# Altium footprint library Lib_foot_Radar.PcbLib: 80 footprints (part 3 of 5)
Each footprint in its own frame and in the unit in brackets; x right, y up, seen from the top. Pads: shape width x height; smd on the part's side, far side on the other; paste and mask are expansions set on the pad; w line width, h text height; cw(c..) or ccw(c..) is an arc to the next point about the centre after c.
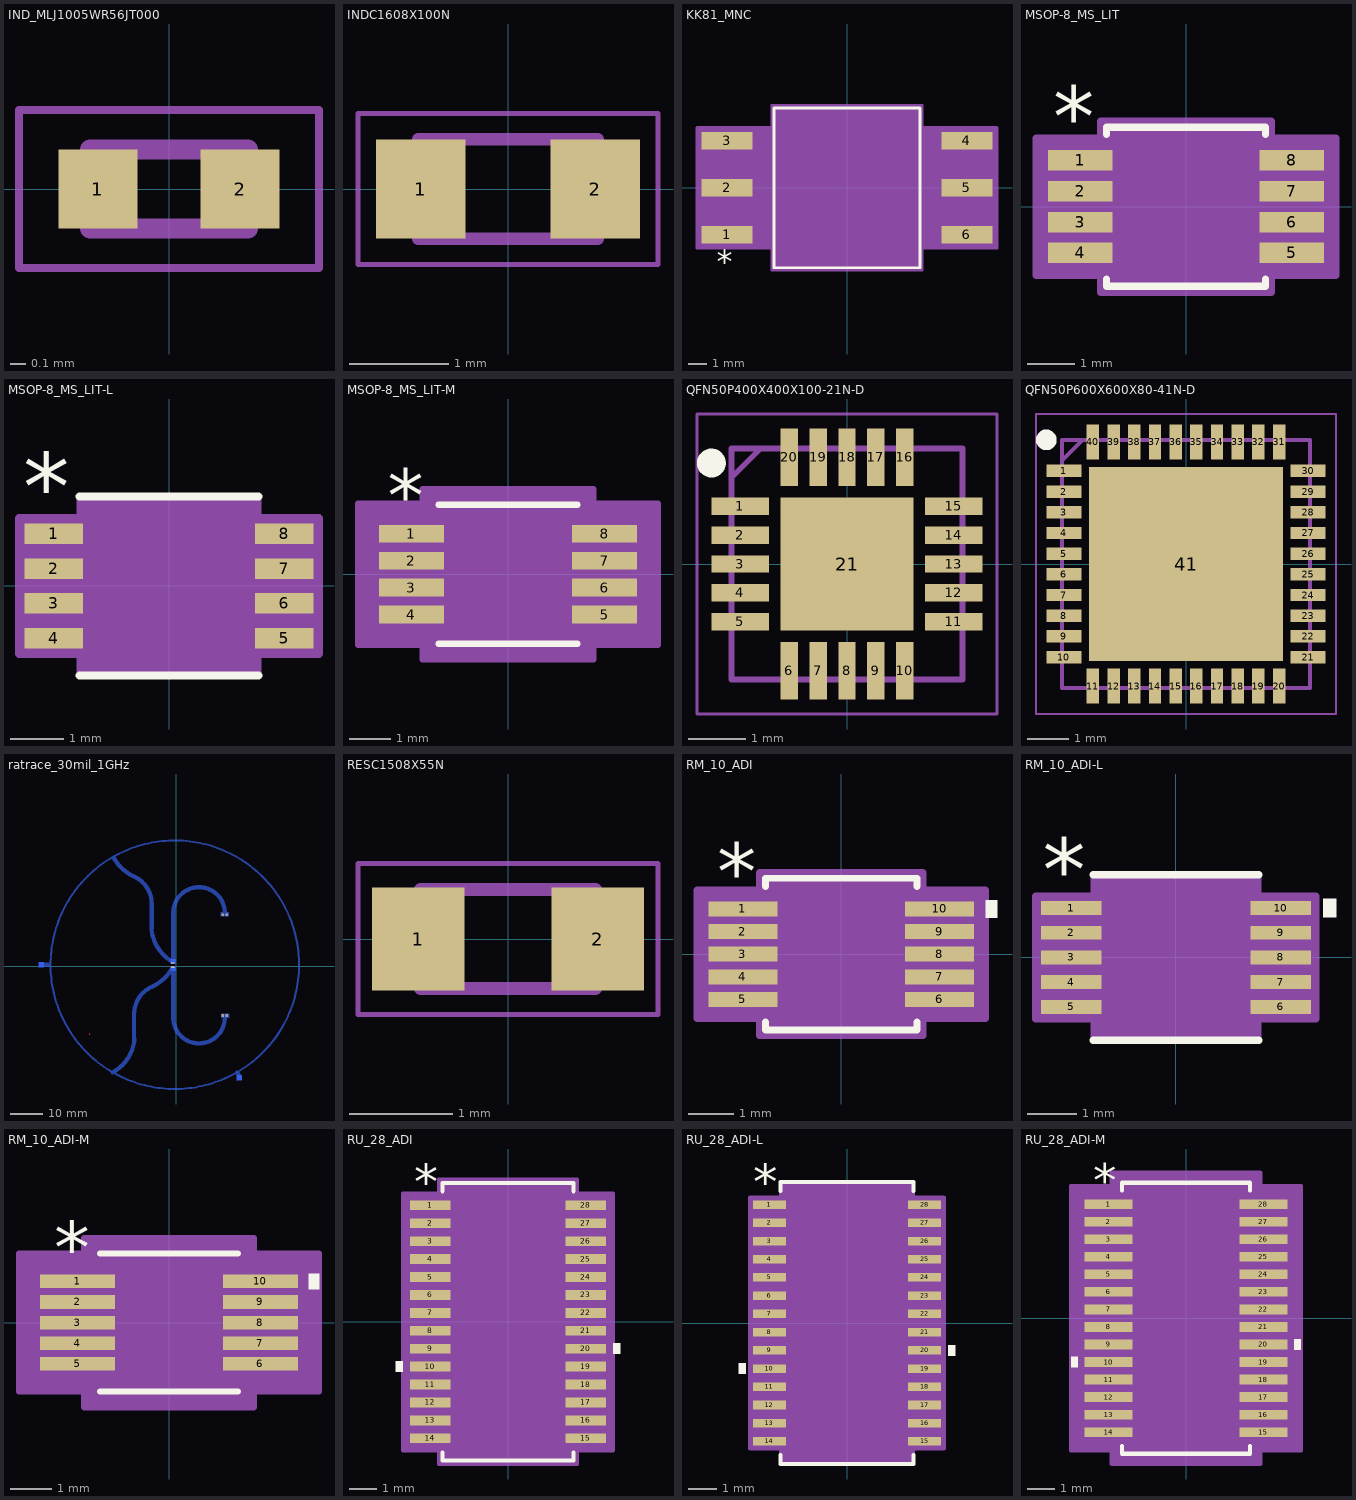
[diagram p2: the footprints below, top view; thin cyan lines are the x and y axes]

## IND_MLJ1005WR56JT000 [mm]
height 0.55
pads (2):
  rect 0.5x0.5 smd: 1(-0.45,0) 2(0.45,0)
Mechanical 13:
  lines w0.127: -0.5,-0.25 -0.5,0.25 0.5,0.25 0.5,-0.25 -0.5,-0.25
Mechanical 15:
  lines w0.05: -0.95,-0.5 -0.95,0.5 0.95,0.5 0.95,-0.5 -0.95,-0.5

## INDC1608X100N [mm] "Inductor LQW0603"
pads (2):
  rect 0.9x1 smd: 1(-0.875,0) 2(0.875,0)
Mechanical 13:
  lines w0.127: -0.9,-0.5 -0.9,0.5 0.9,0.5 0.9,-0.5 -0.9,-0.5
Mechanical 15:
  lines w0.05: -1.508,-0.758 -1.508,0.758 1.508,0.758 1.508,-0.758 -1.508,-0.758
3D body "LQW18ANR47J00D.step": height 1, standoff 0, extent -0.8,-0.381 0.8,0.419

## KK81_MNC [mil]
pads (6):
  rect 108x37 smd paste+0 mask+0: 1(-255,-100) 2(-255,0) 3(-255,100) 4(255,100) 5(255,0) 6(255,-100)
Top Overlay:
  lines w6: -155,-170 155,-170 155,170 -155,170 -155,-170
  text "*" at -277.5,-182 h50
Mechanical 13:
  lines w0: -12,165 ccw(c0,165) 12,165
  lines w1: -295,-117.5 -295,-82.5 -150,-82.5 -150,-117.5 -295,-117.5 ; -295,-17.5 -295,17.5 -150,17.5 -150,-17.5 -295,-17.5 ; -295,82.5 -295,117.5 -150,117.5 -150,82.5 -295,82.5 ; -150,-165 150,-165 150,165 -150,165 -150,-165 ; 150,-117.5 150,-82.5 295,-82.5 295,-117.5 150,-117.5 ; 150,-17.5 150,17.5 295,17.5 295,-17.5 150,-17.5 ; 150,82.5 150,117.5 295,117.5 295,82.5 150,82.5
  text "*" at -147.5,-162 h50
Mechanical 15:
  region: -160,-128.5 -319,-128.5 -319,128.5 -160,128.5 -160,175 160,175 160,128.5 319,128.5 319,-128.5 160,-128.5 160,-175 -160,-175
  lines w6: -319,-128.5 -319,128.5 -160,128.5 -160,175 160,175 160,128.5 319,128.5 319,-128.5 160,-128.5 160,-175 -160,-175 -160,-128.5 -319,-128.5
3D body: height 112, standoff 0, extent -150,-165 150,165

## MSOP-8_MS_LIT [mil]
pads (8):
  rect 53.5x17 smd paste+0 mask+0: 1(-87.75,38.39) 2(-87.75,12.8) 3(-87.75,-12.8) 4(-87.75,-38.39) 5(87.75,-38.39) 6(87.75,-12.8) 7(87.75,12.8) 8(87.75,38.39)
Top Overlay:
  lines w6: -66,-59.99 -66,-66 66,-66 66,-59.99 ; -66,59.99 -66,66 66,66 66,59.99
  text "*" at -110.25,50.39 h50
Mechanical 13:
  lines w0: -12,61 ccw(c0,61) 12,61
  lines w1: -100.5,-45.89 -61,-45.89 -61,-30.89 -100.5,-30.89 -100.5,-45.89 ; -100.5,-20.3 -61,-20.3 -61,-5.3 -100.5,-5.3 -100.5,-20.3 ; -100.5,5.3 -61,5.3 -61,20.3 -100.5,20.3 -100.5,5.3 ; -100.5,30.89 -61,30.89 -61,45.89 -100.5,45.89 -100.5,30.89 ; -61,-61 -61,61 61,61 61,-61 -61,-61 ; 61,-45.89 100.5,-45.89 100.5,-30.89 61,-30.89 61,-45.89 ; 61,-20.3 100.5,-20.3 100.5,-5.3 61,-5.3 61,-20.3 ; 61,5.3 100.5,5.3 100.5,20.3 61,20.3 61,5.3 ; 61,30.89 100.5,30.89 100.5,45.89 61,45.89 61,30.89
  text "*" at -58.5,8 h50
Mechanical 15:
  region: -71,-56.89 -124.5,-56.89 -124.5,56.89 -71,56.89 -71,71 71,71 71,56.89 124.5,56.89 124.5,-56.89 71,-56.89 71,-71 -71,-71
  lines w6: -124.5,-56.89 -71,-56.89 -71,-71 71,-71 71,-56.89 124.5,-56.89 124.5,56.89 71,56.89 71,71 -71,71 -71,56.89 -124.5,56.89 -124.5,-56.89
3D body "MSOP-8_MS_LIT.step": height 43.11, standoff 0, extent -100.51,-60.98 100.51,60.98

## MSOP-8_MS_LIT-L [mil]
pads (8):
  rect 43x15 smd paste+0 mask+0: 1(-85,38.39) 2(-85,12.8) 3(-85,-12.8) 4(-85,-38.39) 5(85,-38.39) 6(85,-12.8) 7(85,12.8) 8(85,38.39)
Top Overlay:
  lines w6: -66,-66 66,-66 ; -66,66 66,66
  text "*" at -107.5,48.39 h50
Mechanical 13:
  lines w0: -12,61 ccw(c0,61) 12,61
  lines w1: -100.5,-45.89 -100.5,-30.89 -61,-30.89 -61,-45.89 -100.5,-45.89 ; -100.5,-20.3 -100.5,-5.3 -61,-5.3 -61,-20.3 -100.5,-20.3 ; -100.5,5.3 -100.5,20.3 -61,20.3 -61,5.3 -100.5,5.3 ; -100.5,30.89 -100.5,45.89 -61,45.89 -61,30.89 -100.5,30.89 ; -61,-61 61,-61 61,61 -61,61 -61,-61 ; 61,-45.89 61,-30.89 100.5,-30.89 100.5,-45.89 61,-45.89 ; 61,-20.3 61,-5.3 100.5,-5.3 100.5,-20.3 61,-20.3 ; 61,5.3 61,20.3 100.5,20.3 100.5,5.3 61,5.3 ; 61,30.89 61,45.89 100.5,45.89 100.5,30.89 61,30.89
  text "*" at -58.5,8 h50
Mechanical 15:
  region: -65,-49.89 -110.5,-49.89 -110.5,49.89 -65,49.89 -65,65 65,65 65,49.89 110.5,49.89 110.5,-49.89 65,-49.89 65,-65 -65,-65
  lines w6: -110.5,-49.89 -110.5,49.89 -65,49.89 -65,65 65,65 65,49.89 110.5,49.89 110.5,-49.89 65,-49.89 65,-65 -65,-65 -65,-49.89 -110.5,-49.89
3D body "MSOP-8_MS_LIT.step": height 43.11, standoff 0, extent -100.51,-60.98 100.51,60.98

## MSOP-8_MS_LIT-M [mil]
pads (8):
  rect 61.5x17 smd paste+0 mask+0: 1(-91.75,38.39) 2(-91.75,12.8) 3(-91.75,-12.8) 4(-91.75,-38.39) 5(91.75,-38.39) 6(91.75,-12.8) 7(91.75,12.8) 8(91.75,38.39)
Top Overlay:
  lines w6: -66,-66 66,-66 ; -66,66 66,66
  text "*" at -114.25,50.39 h50
Mechanical 13:
  lines w0: -12,61 ccw(c0,61) 12,61
  lines w1: -100.5,-45.89 -61,-45.89 -61,-30.89 -100.5,-30.89 -100.5,-45.89 ; -100.5,-20.3 -61,-20.3 -61,-5.3 -100.5,-5.3 -100.5,-20.3 ; -100.5,5.3 -61,5.3 -61,20.3 -100.5,20.3 -100.5,5.3 ; -100.5,30.89 -61,30.89 -61,45.89 -100.5,45.89 -100.5,30.89 ; -61,-61 -61,61 61,61 61,-61 -61,-61 ; 61,-45.89 100.5,-45.89 100.5,-30.89 61,-30.89 61,-45.89 ; 61,-20.3 100.5,-20.3 100.5,-5.3 61,-5.3 61,-20.3 ; 61,5.3 100.5,5.3 100.5,20.3 61,20.3 61,5.3 ; 61,30.89 100.5,30.89 100.5,45.89 61,45.89 61,30.89
  text "*" at -58.5,8 h50
Mechanical 15:
  region: -81,-66.89 -142.5,-66.89 -142.5,66.89 -81,66.89 -81,81 81,81 81,66.89 142.5,66.89 142.5,-66.89 81,-66.89 81,-81 -81,-81
  lines w6: -142.5,-66.89 -81,-66.89 -81,-81 81,-81 81,-66.89 142.5,-66.89 142.5,66.89 81,66.89 81,81 -81,81 -81,66.89 -142.5,66.89 -142.5,-66.89
3D body "MSOP-8_MS_LIT.step": height 43.11, standoff 0, extent -100.51,-60.98 100.51,60.98

## QFN50P400X400X100-21N-D [mm]
pads (21):
  rect 1x0.3 smd: 1(-1.85,1) 2(-1.85,0.5) 3(-1.85,0) 4(-1.85,-0.5) 5(-1.85,-1) 11(1.85,-1) 12(1.85,-0.5) 13(1.85,0) 14(1.85,0.5) 15(1.85,1)
  rect 0.3x1 smd: 6(-1,-1.85) 7(-0.5,-1.85) 8(0,-1.85) 9(0.5,-1.85) 10(1,-1.85) 16(1,1.85) 17(0.5,1.85) 18(0,1.85) 19(-0.5,1.85) 20(-1,1.85)
  rect 2.3x2.3 smd: 21(0,0)
Top Overlay:
  circle w0.25: c-2.35,1.75 r0.125
Mechanical 15:
  lines w0.1: -2,1.5 -1.5,2 ; -2,-2 2,-2 2,2 -2,2 -2,-2
Mechanical 20:
  lines w0.05: -2.6,-2.6 2.6,-2.6 2.6,2.6 -2.6,2.6 -2.6,-2.6
3D body "HMC1056LP4BE.stp": height 1, standoff 0, extent -2.05,-2.05 2.05,2.05

## QFN50P600X600X80-41N-D [mm]
pads (41):
  rect 0.85x0.3 smd: 1(-2.95,2.25) 2(-2.95,1.75) 3(-2.95,1.25) 4(-2.95,0.75) 5(-2.95,0.25) 6(-2.95,-0.25) 7(-2.95,-0.75) 8(-2.95,-1.25) 9(-2.95,-1.75) 10(-2.95,-2.25) 21(2.95,-2.25) 22(2.95,-1.75) 23(2.95,-1.25) 24(2.95,-0.75) 25(2.95,-0.25) 26(2.95,0.25) 27(2.95,0.75) 28(2.95,1.25) 29(2.95,1.75) 30(2.95,2.25)
  rect 0.3x0.85 smd: 11(-2.25,-2.95) 12(-1.75,-2.95) 13(-1.25,-2.95) 14(-0.75,-2.95) 15(-0.25,-2.95) 16(0.25,-2.95) 17(0.75,-2.95) 18(1.25,-2.95) 19(1.75,-2.95) 20(2.25,-2.95) 31(2.25,2.95) 32(1.75,2.95) 33(1.25,2.95) 34(0.75,2.95) 35(0.25,2.95) 36(-0.25,2.95) 37(-0.75,2.95) 38(-1.25,2.95) 39(-1.75,2.95) 40(-2.25,2.95)
  rect 4.7x4.7 smd: 41(0,0)
Top Overlay:
  circle w0.25: c-3.375,3 r0.125
Mechanical 15:
  lines w0.1: -3,2.5 -2.5,3 ; -3,-3 -3,3 3,3 3,-3 -3,-3
Mechanical 20:
  lines w0.05: -3.625,-3.625 -3.625,3.625 3.625,3.625 3.625,-3.625 -3.625,-3.625
3D body "HMC8415LP6GE.stp": height 0.8, standoff 0, extent -3.05,-3.05 3.05,3.05

## ratrace_30mil_1GHz [mil]
pads (6):
  rect 45x18 smd paste+0 mask+0: 1(-45,-10.59) 2(-45,40.59)
  rect 56.3x56.3 smd far side paste+0 mask+4: 1(765,-1359.37) 2(-40,-25) 3(-1650,20) 4(-40,60)
via 565,630 diameter 31.5 hole 31.5
via 615,630 diameter 31.5 hole 31.5
via 565,-600 diameter 31.5 hole 31.5
via 615,-600 diameter 31.5 hole 31.5
Top Layer:
  region: -1057.82,-820.42 -1050.24,-820.42 -1050.24,-828 -1057.82,-828 -1057.82,-835.57 -1065.39,-835.57 -1065.39,-820.42
Bottom Layer:
  rectangle: 535,605 640,660
  region: 645,-575 540,-575 540,-630 645,-630
  lines w24.41: -1536.1,19.64 ccw(c-20.35,19.64) -778.23,-1293.03 ; -1535.75,20 cw(c-20,20) -777.87,1332.68 ; -778.23,1332.32 cw(c-20.35,19.64) 737.52,-1293.03 ; -777.87,-1292.68 ccw(c-20,20) 737.87,-1292.68
  lines w50.79: -1650,20 ccw(c-1649.64,20) -1649.64,19.64 -1550,19.64 ; -778.23,-1293.03 ccw(c-1022.23,-843.99) -512.74,-883.88 ; -766.03,1323.49 ccw(c-280.08,1602.53) -533.65,1102.81 cw(c-668.53,761.84) -301.87,766.17 -301.87,465.15 ; -516.36,-880.26 -516.36,-579.24 cw(c-149.7,-583.57) -284.58,-242.6 ccw(c-538.14,257.12) -52.19,-21.92 ; -305.49,461.53 ccw(c204,501.42) -40,52.38 ; -40,-625 ccw(c274.96,-625) 589.92,-625 ; -40,-615.55 -40,-25 ; -40,60 -40,650.55 cw(c274.96,650.55) 589.92,650.55 ; 737.52,-1293.03 cw(c671.18,-1359.37) 765,-1359.37

## RESC1508X55N [mm]
pads (2):
  rect 0.9x1 smd: 1(-0.875,0) 2(0.875,0)
Mechanical 13:
  lines w0.127: -0.85,-0.48 -0.85,0.48 0.85,0.48 0.85,-0.48 -0.85,-0.48
Mechanical 15:
  lines w0.05: -1.46,-0.735 -1.46,0.735 1.46,0.735 1.46,-0.735 -1.46,-0.735
3D body "RMCF0603JT10R0.step": height 0.55, standoff 0, extent -0.775,-0.4 0.775,0.4

## RM_10_ADI [mil]
pads (10):
  rect 60x13 smd paste+0 mask+0: 1(-85.5,39.37) 2(-85.5,19.68) 3(-85.5,0) 4(-85.5,-19.68) 5(-85.5,-39.37) 6(85.5,-39.37) 7(85.5,-19.68) 8(85.5,0) 9(85.5,19.68) 10(85.5,39.37)
Top Overlay:
  region: 125.5,46.87 135.5,46.87 135.5,31.87 125.5,31.87
  lines w6: -66,-58.97 -66,-66 66,-66 66,-58.97 ; -66,58.97 -66,66 66,66 66,58.97
  text "*" at -108,47.37 h50
Mechanical 13:
  lines w0: -12,61 ccw(c0,61) 12,61
  lines w1: -101.5,-45.87 -101.5,-32.87 -61,-32.87 -61,-45.87 -101.5,-45.87 ; -101.5,-26.18 -101.5,-13.19 -61,-13.19 -61,-26.18 -101.5,-26.18 ; -101.5,-6.5 -101.5,6.5 -61,6.5 -61,-6.5 -101.5,-6.5 ; -101.5,13.19 -101.5,26.18 -61,26.18 -61,13.19 -101.5,13.19 ; -101.5,32.87 -101.5,45.87 -61,45.87 -61,32.87 -101.5,32.87 ; -61,-61 61,-61 61,61 -61,61 -61,-61 ; 61,-45.87 61,-32.87 101.5,-32.87 101.5,-45.87 61,-45.87 ; 61,-26.18 61,-13.19 101.5,-13.19 101.5,-26.18 61,-26.18 ; 61,-6.5 61,6.5 101.5,6.5 101.5,-6.5 61,-6.5 ; 61,13.19 61,26.18 101.5,26.18 101.5,13.19 61,13.19 ; 61,32.87 61,45.87 101.5,45.87 101.5,32.87 61,32.87
  text "*" at -58.5,8 h50
Mechanical 15:
  region: -71,-55.87 -125.5,-55.87 -125.5,55.87 -71,55.87 -71,71 71,71 71,55.87 125.5,55.87 125.5,-55.87 71,-55.87 71,-71 -71,-71
  lines w6: -125.5,-55.87 -125.5,55.87 -71,55.87 -71,71 71,71 71,55.87 125.5,55.87 125.5,-55.87 71,-55.87 71,-71 -71,-71 -71,-55.87 -125.5,-55.87
3D body "RM_10_ADI.step": height 43.11, standoff 0, extent -101.5,-60.98 101.5,60.98

## RM_10_ADI-L [mil]
pads (10):
  rect 48x11 smd paste+0 mask+0: 1(-83.5,39.37) 2(-83.5,19.68) 3(-83.5,0) 4(-83.5,-19.68) 5(-83.5,-39.37) 6(83.5,-39.37) 7(83.5,-19.68) 8(83.5,0) 9(83.5,19.68) 10(83.5,39.37)
Top Overlay:
  region: 117.5,46.87 127.5,46.87 127.5,31.87 117.5,31.87
  lines w6: -66,-66 66,-66 ; -66,66 66,66
  text "*" at -106,45.37 h50
Mechanical 13:
  lines w0: -12,61 ccw(c0,61) 12,61
  lines w1: -101.5,-45.87 -101.5,-32.87 -61,-32.87 -61,-45.87 -101.5,-45.87 ; -101.5,-26.18 -101.5,-13.19 -61,-13.19 -61,-26.18 -101.5,-26.18 ; -101.5,-6.5 -101.5,6.5 -61,6.5 -61,-6.5 -101.5,-6.5 ; -101.5,13.19 -101.5,26.18 -61,26.18 -61,13.19 -101.5,13.19 ; -101.5,32.87 -101.5,45.87 -61,45.87 -61,32.87 -101.5,32.87 ; -61,-61 61,-61 61,61 -61,61 -61,-61 ; 61,-45.87 61,-32.87 101.5,-32.87 101.5,-45.87 61,-45.87 ; 61,-26.18 61,-13.19 101.5,-13.19 101.5,-26.18 61,-26.18 ; 61,-6.5 61,6.5 101.5,6.5 101.5,-6.5 61,-6.5 ; 61,13.19 61,26.18 101.5,26.18 101.5,13.19 61,13.19 ; 61,32.87 61,45.87 101.5,45.87 101.5,32.87 61,32.87
  text "*" at -58.5,8 h50
Mechanical 15:
  region: -65,-48.87 -111.5,-48.87 -111.5,48.87 -65,48.87 -65,65 65,65 65,48.87 111.5,48.87 111.5,-48.87 65,-48.87 65,-65 -65,-65
  lines w6: -111.5,-48.87 -111.5,48.87 -65,48.87 -65,65 65,65 65,48.87 111.5,48.87 111.5,-48.87 65,-48.87 65,-65 -65,-65 -65,-48.87 -111.5,-48.87
3D body "RM_10_ADI.step": height 43.11, standoff 0, extent -101.5,-60.98 101.5,60.98

## RM_10_ADI-M [mil]
pads (10):
  rect 72x13 smd paste+0 mask+0: 1(-87.5,39.37) 2(-87.5,19.68) 3(-87.5,0) 4(-87.5,-19.68) 5(-87.5,-39.37) 6(87.5,-39.37) 7(87.5,-19.68) 8(87.5,0) 9(87.5,19.68) 10(87.5,39.37)
Top Overlay:
  region: 133.5,46.87 143.5,46.87 143.5,31.87 133.5,31.87
  lines w6: -66,-66 66,-66 ; -66,66 66,66
  text "*" at -110,47.37 h50
Mechanical 13:
  lines w0: -12,61 ccw(c0,61) 12,61
  lines w1: -101.5,-45.87 -101.5,-32.87 -61,-32.87 -61,-45.87 -101.5,-45.87 ; -101.5,-26.18 -101.5,-13.19 -61,-13.19 -61,-26.18 -101.5,-26.18 ; -101.5,-6.5 -101.5,6.5 -61,6.5 -61,-6.5 -101.5,-6.5 ; -101.5,13.19 -101.5,26.18 -61,26.18 -61,13.19 -101.5,13.19 ; -101.5,32.87 -101.5,45.87 -61,45.87 -61,32.87 -101.5,32.87 ; -61,-61 61,-61 61,61 -61,61 -61,-61 ; 61,-45.87 61,-32.87 101.5,-32.87 101.5,-45.87 61,-45.87 ; 61,-26.18 61,-13.19 101.5,-13.19 101.5,-26.18 61,-26.18 ; 61,-6.5 61,6.5 101.5,6.5 101.5,-6.5 61,-6.5 ; 61,13.19 61,26.18 101.5,26.18 101.5,13.19 61,13.19 ; 61,32.87 61,45.87 101.5,45.87 101.5,32.87 61,32.87
  text "*" at -58.5,8 h50
Mechanical 15:
  region: -81,-65.87 -143.5,-65.87 -143.5,65.87 -81,65.87 -81,81 81,81 81,65.87 143.5,65.87 143.5,-65.87 81,-65.87 81,-81 -81,-81
  lines w6: -143.5,-65.87 -143.5,65.87 -81,65.87 -81,81 81,81 81,65.87 143.5,65.87 143.5,-65.87 81,-65.87 81,-81 -81,-81 -81,-65.87 -143.5,-65.87
3D body "RM_10_ADI.step": height 43.11, standoff 0, extent -101.5,-60.98 101.5,60.98

## RU_28_ADI [mil]
pads (28):
  rect 58x14 smd paste+0 mask+0: 1(-111,166.34) 2(-111,140.75) 3(-111,115.16) 4(-111,89.57) 5(-111,63.98) 6(-111,38.39) 7(-111,12.8) 8(-111,-12.8) 9(-111,-38.39) 10(-111,-63.98) 11(-111,-89.57) 12(-111,-115.16) 13(-111,-140.75) 14(-111,-166.34) 15(111,-166.34) 16(111,-140.75) 17(111,-115.16) 18(111,-89.57) 19(111,-63.98) 20(111,-38.39) 21(111,-12.8) 22(111,12.8) 23(111,38.39) 24(111,63.98) 25(111,89.57) 26(111,115.16) 27(111,140.75) 28(111,166.34)
Top Overlay:
  region: -150,-56.48 -160,-56.48 -160,-71.48 -150,-71.48
  region: 150,-30.89 160,-30.89 160,-45.89 150,-45.89
  lines w6: -93.5,-186.44 -93.5,-198 93.5,-198 93.5,-186.44 ; -93.5,186.44 -93.5,198 93.5,198 93.5,186.44
  text "*" at -133.5,175.34 h50
Mechanical 13:
  lines w0: -12,193 ccw(c0,193) 12,193
  lines w1: -126,-172.34 -126,-160.34 -88.5,-160.34 -88.5,-172.34 -126,-172.34 ; -126,-146.75 -126,-134.75 -88.5,-134.75 -88.5,-146.75 -126,-146.75 ; -126,-121.16 -126,-109.16 -88.5,-109.16 -88.5,-121.16 -126,-121.16 ; -126,-95.57 -126,-83.57 -88.5,-83.57 -88.5,-95.57 -126,-95.57 ; -126,-69.98 -126,-57.98 -88.5,-57.98 -88.5,-69.98 -126,-69.98 ; -126,-44.39 -126,-32.39 -88.5,-32.39 -88.5,-44.39 -126,-44.39 ; -126,-18.8 -126,-6.8 -88.5,-6.8 -88.5,-18.8 -126,-18.8 ; -126,6.8 -126,18.8 -88.5,18.8 -88.5,6.8 -126,6.8 ; -126,32.39 -126,44.39 -88.5,44.39 -88.5,32.39 -126,32.39 ; -126,57.98 -126,69.98 -88.5,69.98 -88.5,57.98 -126,57.98 ; -126,83.57 -126,95.57 -88.5,95.57 -88.5,83.57 -126,83.57 ; -126,109.16 -126,121.16 -88.5,121.16 -88.5,109.16 -126,109.16 ; -126,134.75 -126,146.75 -88.5,146.75 -88.5,134.75 -126,134.75 ; -126,160.34 -126,172.34 -88.5,172.34 -88.5,160.34 -126,160.34 ; -88.5,-193 88.5,-193 88.5,193 -88.5,193 -88.5,-193 ; 88.5,-172.34 88.5,-160.34 126,-160.34 126,-172.34 88.5,-172.34 ; 88.5,-146.75 88.5,-134.75 126,-134.75 126,-146.75 88.5,-146.75 ; 88.5,-121.16 88.5,-109.16 126,-109.16 126,-121.16 88.5,-121.16 ; 88.5,-95.57 88.5,-83.57 126,-83.57 126,-95.57 88.5,-95.57 ; 88.5,-69.98 88.5,-57.98 126,-57.98 126,-69.98 88.5,-69.98 ; 88.5,-44.39 88.5,-32.39 126,-32.39 126,-44.39 88.5,-44.39 ; 88.5,-18.8 88.5,-6.8 126,-6.8 126,-18.8 88.5,-18.8 ; 88.5,6.8 88.5,18.8 126,18.8 126,6.8 88.5,6.8 ; 88.5,32.39 88.5,44.39 126,44.39 126,32.39 88.5,32.39 ; 88.5,57.98 88.5,69.98 126,69.98 126,57.98 88.5,57.98 ; 88.5,83.57 88.5,95.57 126,95.57 126,83.57 88.5,83.57 ; 88.5,109.16 88.5,121.16 126,121.16 126,109.16 88.5,109.16 ; 88.5,134.75 88.5,146.75 126,146.75 126,134.75 88.5,134.75 ; 88.5,160.34 88.5,172.34 126,172.34 126,160.34 88.5,160.34
  text "*" at -86,140 h50
Mechanical 15:
  region: -98.5,-183.34 -150,-183.34 -150,183.34 -98.5,183.34 -98.5,203 98.5,203 98.5,183.34 150,183.34 150,-183.34 98.5,-183.34 98.5,-203 -98.5,-203
  lines w6: -150,-183.34 -150,183.34 -98.5,183.34 -98.5,203 98.5,203 98.5,183.34 150,183.34 150,-183.34 98.5,-183.34 98.5,-203 -98.5,-203 -98.5,-183.34 -150,-183.34
3D body "RU_28_ADI.step": height 47.09, standoff 0, extent -125.98,-192.99 125.98,192.99

## RU_28_ADI-L [mil]
pads (28):
  rect 46x12 smd paste+0 mask+0: 1(-109,166.34) 2(-109,140.75) 3(-109,115.16) 4(-109,89.57) 5(-109,63.98) 6(-109,38.39) 7(-109,12.8) 8(-109,-12.8) 9(-109,-38.39) 10(-109,-63.98) 11(-109,-89.57) 12(-109,-115.16) 13(-109,-140.75) 14(-109,-166.34) 15(109,-166.34) 16(109,-140.75) 17(109,-115.16) 18(109,-89.57) 19(109,-63.98) 20(109,-38.39) 21(109,-12.8) 22(109,12.8) 23(109,38.39) 24(109,63.98) 25(109,89.57) 26(109,115.16) 27(109,140.75) 28(109,166.34)
Top Overlay:
  region: -142,-56.48 -152,-56.48 -152,-71.48 -142,-71.48
  region: 142,-30.89 152,-30.89 152,-45.89 142,-45.89
  lines w6: -93.5,-185.44 -93.5,-198 93.5,-198 93.5,-185.44 ; -93.5,185.44 -93.5,198 93.5,198 93.5,185.44
  text "*" at -131.5,173.34 h50
Mechanical 13:
  lines w0: -12,193 ccw(c0,193) 12,193
  lines w1: -126,-172.34 -126,-160.34 -88.5,-160.34 -88.5,-172.34 -126,-172.34 ; -126,-146.75 -126,-134.75 -88.5,-134.75 -88.5,-146.75 -126,-146.75 ; -126,-121.16 -126,-109.16 -88.5,-109.16 -88.5,-121.16 -126,-121.16 ; -126,-95.57 -126,-83.57 -88.5,-83.57 -88.5,-95.57 -126,-95.57 ; -126,-69.98 -126,-57.98 -88.5,-57.98 -88.5,-69.98 -126,-69.98 ; -126,-44.39 -126,-32.39 -88.5,-32.39 -88.5,-44.39 -126,-44.39 ; -126,-18.8 -126,-6.8 -88.5,-6.8 -88.5,-18.8 -126,-18.8 ; -126,6.8 -126,18.8 -88.5,18.8 -88.5,6.8 -126,6.8 ; -126,32.39 -126,44.39 -88.5,44.39 -88.5,32.39 -126,32.39 ; -126,57.98 -126,69.98 -88.5,69.98 -88.5,57.98 -126,57.98 ; -126,83.57 -126,95.57 -88.5,95.57 -88.5,83.57 -126,83.57 ; -126,109.16 -126,121.16 -88.5,121.16 -88.5,109.16 -126,109.16 ; -126,134.75 -126,146.75 -88.5,146.75 -88.5,134.75 -126,134.75 ; -126,160.34 -126,172.34 -88.5,172.34 -88.5,160.34 -126,160.34 ; -88.5,-193 88.5,-193 88.5,193 -88.5,193 -88.5,-193 ; 88.5,-172.34 88.5,-160.34 126,-160.34 126,-172.34 88.5,-172.34 ; 88.5,-146.75 88.5,-134.75 126,-134.75 126,-146.75 88.5,-146.75 ; 88.5,-121.16 88.5,-109.16 126,-109.16 126,-121.16 88.5,-121.16 ; 88.5,-95.57 88.5,-83.57 126,-83.57 126,-95.57 88.5,-95.57 ; 88.5,-69.98 88.5,-57.98 126,-57.98 126,-69.98 88.5,-69.98 ; 88.5,-44.39 88.5,-32.39 126,-32.39 126,-44.39 88.5,-44.39 ; 88.5,-18.8 88.5,-6.8 126,-6.8 126,-18.8 88.5,-18.8 ; 88.5,6.8 88.5,18.8 126,18.8 126,6.8 88.5,6.8 ; 88.5,32.39 88.5,44.39 126,44.39 126,32.39 88.5,32.39 ; 88.5,57.98 88.5,69.98 126,69.98 126,57.98 88.5,57.98 ; 88.5,83.57 88.5,95.57 126,95.57 126,83.57 88.5,83.57 ; 88.5,109.16 88.5,121.16 126,121.16 126,109.16 88.5,109.16 ; 88.5,134.75 88.5,146.75 126,146.75 126,134.75 88.5,134.75 ; 88.5,160.34 88.5,172.34 126,172.34 126,160.34 88.5,160.34
  text "*" at -86,140 h50
Mechanical 15:
  region: -92.5,-176.34 -136,-176.34 -136,176.34 -92.5,176.34 -92.5,197 92.5,197 92.5,176.34 136,176.34 136,-176.34 92.5,-176.34 92.5,-197 -92.5,-197
  lines w6: -136,-176.34 -136,176.34 -92.5,176.34 -92.5,197 92.5,197 92.5,176.34 136,176.34 136,-176.34 92.5,-176.34 92.5,-197 -92.5,-197 -92.5,-176.34 -136,-176.34
3D body "RU_28_ADI.step": height 47.09, standoff 0, extent -125.98,-192.99 125.98,192.99

## RU_28_ADI-M [mil]
pads (28):
  rect 70x14 smd paste+0 mask+0: 1(-113,166.34) 2(-113,140.75) 3(-113,115.16) 4(-113,89.57) 5(-113,63.98) 6(-113,38.39) 7(-113,12.8) 8(-113,-12.8) 9(-113,-38.39) 10(-113,-63.98) 11(-113,-89.57) 12(-113,-115.16) 13(-113,-140.75) 14(-113,-166.34) 15(113,-166.34) 16(113,-140.75) 17(113,-115.16) 18(113,-89.57) 19(113,-63.98) 20(113,-38.39) 21(113,-12.8) 22(113,12.8) 23(113,38.39) 24(113,63.98) 25(113,89.57) 26(113,115.16) 27(113,140.75) 28(113,166.34)
Top Overlay:
  region: -158,-56.48 -168,-56.48 -168,-71.48 -158,-71.48
  region: 158,-30.89 168,-30.89 168,-45.89 158,-45.89
  lines w6: -93.5,-186.44 -93.5,-198 93.5,-198 93.5,-186.44 ; -93.5,186.44 -93.5,198 93.5,198 93.5,186.44
  text "*" at -135.5,175.34 h50
Mechanical 13:
  lines w0: -12,193 ccw(c0,193) 12,193
  lines w1: -126,-172.34 -126,-160.34 -88.5,-160.34 -88.5,-172.34 -126,-172.34 ; -126,-146.75 -126,-134.75 -88.5,-134.75 -88.5,-146.75 -126,-146.75 ; -126,-121.16 -126,-109.16 -88.5,-109.16 -88.5,-121.16 -126,-121.16 ; -126,-95.57 -126,-83.57 -88.5,-83.57 -88.5,-95.57 -126,-95.57 ; -126,-69.98 -126,-57.98 -88.5,-57.98 -88.5,-69.98 -126,-69.98 ; -126,-44.39 -126,-32.39 -88.5,-32.39 -88.5,-44.39 -126,-44.39 ; -126,-18.8 -126,-6.8 -88.5,-6.8 -88.5,-18.8 -126,-18.8 ; -126,6.8 -126,18.8 -88.5,18.8 -88.5,6.8 -126,6.8 ; -126,32.39 -126,44.39 -88.5,44.39 -88.5,32.39 -126,32.39 ; -126,57.98 -126,69.98 -88.5,69.98 -88.5,57.98 -126,57.98 ; -126,83.57 -126,95.57 -88.5,95.57 -88.5,83.57 -126,83.57 ; -126,109.16 -126,121.16 -88.5,121.16 -88.5,109.16 -126,109.16 ; -126,134.75 -126,146.75 -88.5,146.75 -88.5,134.75 -126,134.75 ; -126,160.34 -126,172.34 -88.5,172.34 -88.5,160.34 -126,160.34 ; -88.5,-193 88.5,-193 88.5,193 -88.5,193 -88.5,-193 ; 88.5,-172.34 88.5,-160.34 126,-160.34 126,-172.34 88.5,-172.34 ; 88.5,-146.75 88.5,-134.75 126,-134.75 126,-146.75 88.5,-146.75 ; 88.5,-121.16 88.5,-109.16 126,-109.16 126,-121.16 88.5,-121.16 ; 88.5,-95.57 88.5,-83.57 126,-83.57 126,-95.57 88.5,-95.57 ; 88.5,-69.98 88.5,-57.98 126,-57.98 126,-69.98 88.5,-69.98 ; 88.5,-44.39 88.5,-32.39 126,-32.39 126,-44.39 88.5,-44.39 ; 88.5,-18.8 88.5,-6.8 126,-6.8 126,-18.8 88.5,-18.8 ; 88.5,6.8 88.5,18.8 126,18.8 126,6.8 88.5,6.8 ; 88.5,32.39 88.5,44.39 126,44.39 126,32.39 88.5,32.39 ; 88.5,57.98 88.5,69.98 126,69.98 126,57.98 88.5,57.98 ; 88.5,83.57 88.5,95.57 126,95.57 126,83.57 88.5,83.57 ; 88.5,109.16 88.5,121.16 126,121.16 126,109.16 88.5,109.16 ; 88.5,134.75 88.5,146.75 126,146.75 126,134.75 88.5,134.75 ; 88.5,160.34 88.5,172.34 126,172.34 126,160.34 88.5,160.34
  text "*" at -86,140 h50
Mechanical 15:
  region: -108.5,-193.34 -168,-193.34 -168,193.34 -108.5,193.34 -108.5,213 108.5,213 108.5,193.34 168,193.34 168,-193.34 108.5,-193.34 108.5,-213 -108.5,-213
  lines w6: -168,-193.34 -168,193.34 -108.5,193.34 -108.5,213 108.5,213 108.5,193.34 168,193.34 168,-193.34 108.5,-193.34 108.5,-213 -108.5,-213 -108.5,-193.34 -168,-193.34
3D body "RU_28_ADI.step": height 47.09, standoff 0, extent -125.98,-192.99 125.98,192.99